# Altium footprint library Diode.PcbLib: 53 footprints (part 1 of 4)
Each footprint in its own frame and in the unit in brackets; x right, y up, seen from the top. Pads: shape width x height; smd on the part's side, far side on the other; paste and mask are expansions set on the pad; w line width, h text height; cw(c..) or ccw(c..) is an arc to the next point about the centre after c.
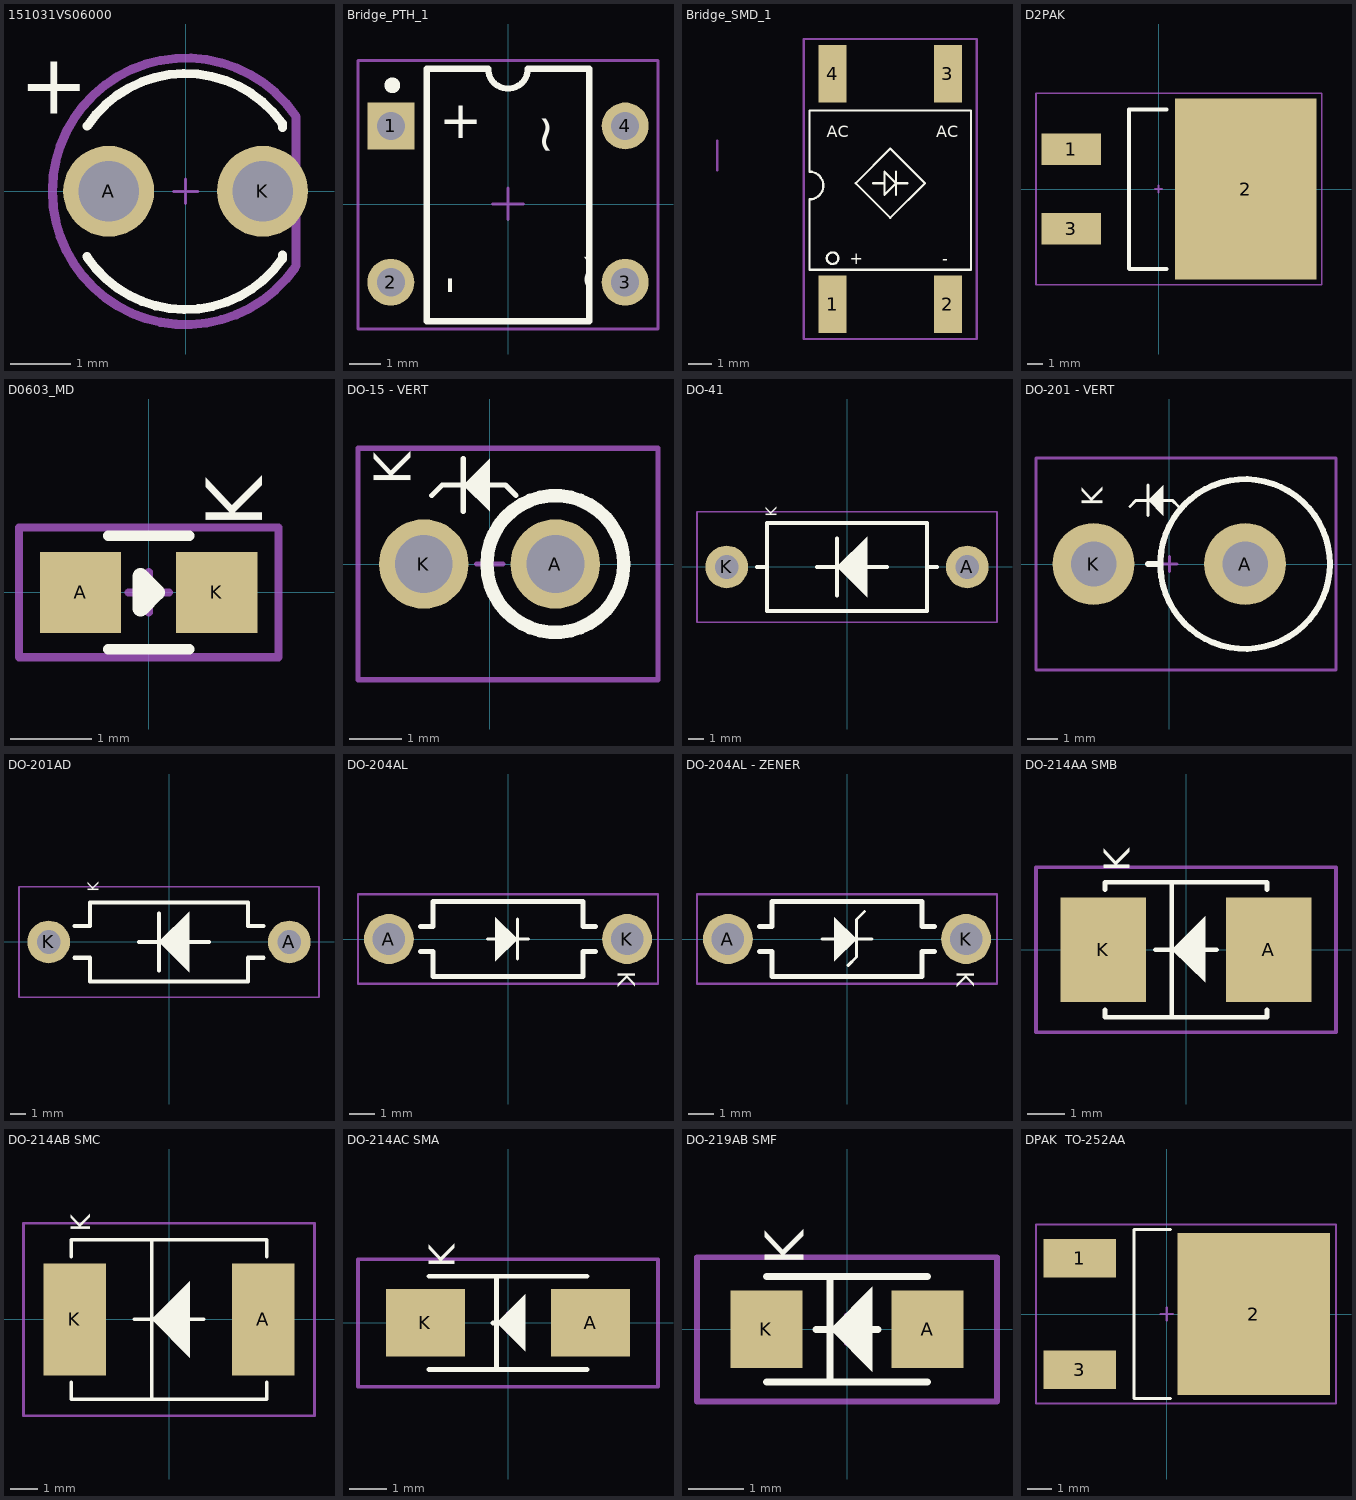
[diagram p0: the footprints below, top view; thin cyan lines are the x and y axes]

## 151031VS06000 [mm]
pads (2):
  round 1.5 hole 1: A(-1.27,0) K(1.27,0)
Top Overlay:
  lines w0.15: -1.631,-1.079 ccw(c-0.006,-0.001) 1.594,-1.114 ; -1.625,1.075 cw(c-0.002,-0.007) 1.581,1.131 ; 1.6,-1.093 1.6,-1.05 ; 1.6,1.05 1.6,1.118
  text "+" at -2.75,1.275 h1
Mechanical 15:
  lines w0.05: -0.2,0 0.2,0 ; 0,-0.2 0,0.2
  lines w0.15: 1.806,-1.256 cw(c0,0) 1.806,1.257 ; 1.819,-1.225 1.819,1.23
3D body "STEP-WL-TMRC-3mm-wos-rev1.STEP": height 5.4, standoff -26.3, extent -1.925,-1.912 1.629,1.912

## Bridge_PTH_1 [mm] "DIP, 8-Pin, Row Spacing 7.62 mm, Pitch 2.54 mm"
height 5.08
pads (4):
  rect 1.5x1.5 hole 0.9: 1(-3.75,2.5)
  round 1.5 hole 0.9: 2(-3.75,-2.5) 3(3.75,-2.5) 4(3.75,2.5)
Top Overlay:
  circle w0.25: c-3.7,3.8 r0.125
  lines w0.2: -2.6,-3.75 -2.6,4.33 -0.635,4.33 ccw(c0,4.33) 0.635,4.33 2.6,4.33 2.6,-3.75 -2.6,-3.75
  text "~" at 3.1,-2.9 h1.2
  text "~" at 0.7,2.9 h1.2
  text "-" at -1.4,-2.9 h1.2
  text "+" at -2.2,2.1 h1.2
Mechanical 15:
  lines w0.1: -0.5,0.005 0.5,0.005 ; 0,-0.495 0,0.505 ; -4.8,-4 -4.8,4.6 4.8,4.6 4.8,-4 -4.8,-4
3D body "User Library-DFM_Bridge_Rectifier.SLDPRT": height 3.75, standoff -3.65, extent -3.9,-4.255 4.1,4.255

## Bridge_SMD_1 [mm]
height 2.6
pads (4):
  rect 1.2x2.5 smd: 1(-1265,-1265) 2(-1260,-1265) 3(-1260,-1255) 4(-1265,-1255)
Top Overlay:
  circle w0.1: c-1265,-1263 r0.25
  lines w0.1: -1266,-1260.5 -1266,-1263.5 -1259,-1263.5 -1259,-1256.6 -1266,-1256.6 -1266,-1259.25 cw(c-1266,-1259.85) -1266,-1260.45 ; -1263.25,-1259.75 -1262.75,-1259.75 ; -1262.25,-1260.25 -1262.25,-1259.25 ; -1261.75,-1259.75 -1262.25,-1259.75 ; -1262.25,-1259.75 -1262.75,-1260.25 -1262.75,-1259.25 -1262.25,-1259.75 ; -1264,-1259.75 -1262.5,-1261.25 -1261,-1259.75 -1262.5,-1258.25 -1264,-1259.75
  text "+" at -1264.25,-1263.25 h0.5
  text "-" at -1260.25,-1263.25 h0.5
  text "AC" at -1265.25,-1257.75 h0.5
  text "AC" at -1260.5,-1257.75 h0.5
Mechanical 15:
  lines w0.1: -1270,-1257.9 -1270,-1258.8 -1270,-1258 ; -1270,-1258 -1270,-1259.2 -1270,-1258 ; -1266.25,-1266.5 -1266.25,-1253.5 -1259,-1253.5 -1258.75,-1253.5 -1258.75,-1266.5 -1266.25,-1266.5

## D2PAK [mm]
pads (3):
  rect 3.8x2 smd paste+0: 1(-5.55,2.54) 3(-5.55,-2.54)
  rect 9x11.5 smd paste+0: 2(5.55,0)
Top Overlay:
  lines w0.254: 0.508,-5.08 -1.854,-5.08 -1.88,-5.055 -1.88,5.055 0.508,5.055
Mechanical 15:
  lines w0.1: -0.25,0 0.25,0 ; 0,-0.25 0,0.25 ; -7.8,-6.1 10.4,-6.1 10.4,6.1 -7.8,6.1 -7.8,-6.1
3D body "D2PAK.step": height 4.98, standoff -0.03, extent -6.971,-5.08 8.292,5.08

## D0603_MD [mm]
height 0.85
pads (2):
  rect 1x1 smd: A(-0.839,0) K(0.839,0)
Top Overlay:
  lines w0.127: -0.5,-0.7 0.5,-0.7 ; -0.5,0.7 0.5,0.7
  lines w0.2: -0.1,-0.2 0.1,0 -0.1,0.2 -0.1,-0.2
  text "K" at 1.4,0.8 h0.7
Mechanical 15:
  lines w0.1: -0.25,0 0.25,0 ; 0,-0.25 0,0.25 ; -1.6,-0.8 -1.6,0.8 1.6,0.8 1.6,-0.8 -1.6,-0.8
3D body "User Library-suppressor.step": height 0.36, standoff 0, extent -0.83,-0.42 0.83,0.42

## DO-15 - VERT [mm]
pads (2):
  round 1.7 hole 1.1: A(1.25,0) K(-1.25,0)
Top Overlay:
  circle w0.254: c1.25,0 r1.3
  region: -0.5,1.5 0,2 0,1
  lines w0.1: -1.1,1.3 -0.9,1.5 -0.5,1.5 ; -0.5,1 -0.5,2 ; 0,1.5 0.3,1.5 0.5,1.3
  text "K" at -1.5,1.5 h0.7
Mechanical 15:
  lines w0.1: -0.25,0 0.25,0 ; 0,-0.25 0,0.25 ; -2.5,-2.2 -2.5,2.2 3.2,2.2 3.2,-2.2 -2.5,-2.2
3D body "User Library-Diod DO-41 Vertical.STEP": height 9.64, standoff -4.5, extent -1.742,-1.35 2.592,1.38

## DO-41 [mm]
pads (2):
  round 2.7 hole 1.5: A(7.62,0) K(-7.62,0)
Top Overlay:
  region: -0.635,0 1.27,1.905 1.27,-1.905
  lines w0.254: -5.715,0 -5.08,0 ; -1.905,0 2.54,0 1.27,0 ; -0.635,-1.8 -0.635,1.8 ; 5.08,0 5.715,0 ; -5.08,-2.794 -5.08,2.794 5.08,2.794 5.08,-2.794 -5.08,-2.794
  text "K" at -4.45,3.175 h0.7
Mechanical 15:
  lines w0.1: -0.25,0 0.25,0 ; 0,-0.25 0,0.25 ; -9.5,-3.5 -9.5,3.5 9.5,3.5 9.5,-3.5 -9.5,-3.5
3D body "User Library-DO-201AD.STEP": height 7.6, standoff -4, extent -8.28,-2.806 8.28,2.794

## DO-201 - VERT [mm]
pads (2):
  round 2.7 hole 1.5: A(2.5,0) K(-2.5,0)
Top Overlay:
  circle w0.2: c2.5,0 r2.8
  region: -0.7,2.1 -0.2,2.6 -0.2,1.6
  lines w0.1: -1.3,1.9 -1.1,2.1 -0.7,2.1 ; -0.7,1.6 -0.7,2.6 ; -0.2,2.1 0.1,2.1 0.3,1.9
  lines w0.2: -0.7,0 -0.3,0
  text "K" at -2.2,1.9 h0.7
Mechanical 15:
  lines w0.1: -0.25,0 0.25,0 ; 0,-0.25 0,0.25 ; -4.4,-3.5 -4.4,3.5 5.5,3.5 5.5,-3.5 -4.4,-3.5
3D body "User Library-DO-201AV-Vertical_200.STEP": height 15.69, standoff -3, extent -3.24,-2.8 5.3,2.8

## DO-201AD [mm]
pads (2):
  round 2.7 hole 1.5: A(7.62,0) K(-7.62,0)
Top Overlay:
  region: -0.635,0 1.27,1.905 1.27,-1.905
  lines w0.254: -6,-1 -5,-1 -5,-2.5 5,-2.5 5,-1.5 ; -6,1 -5,1 -5,2.5 5,2.5 5,1.5 5,1 6,1 ; -1.905,0 2.54,0 1.27,0 ; -0.635,-1.8 -0.635,1.8 ; 5,-1.6 5,-1 6,-1
  text "K" at -4.45,3.175 h0.7
Mechanical 15:
  lines w0.1: -0.25,0 0.25,0 ; 0,-0.25 0,0.25 ; -9.5,-3.5 9.5,-3.5 9.5,3.5 -9.5,3.5 -9.5,-3.5
3D body "User Library-DO-201AD.STEP": height 7.6, standoff -4, extent -8.28,-2.806 8.28,2.794

## DO-204AL [mm]
pads (2):
  round 2 hole 1.3: A(-4.763,0) K(4.763,0)
Top Overlay:
  region: 0.381,0 -0.508,-0.889 -0.508,0.864
  lines w0.127: -0.813,0 0.813,0 ; 0.381,-0.8 0.381,0.8
  lines w0.2: -3.5,-0.5 -3,-0.5 -3,-1.5 3,-1.5 3,-0.5 3.5,-0.5 ; -3.5,0.5 -3,0.5 -3,1.5 3,1.5 3,0.5 3.5,0.5
  text "K" at 4.4,-1.3 h0.7
Mechanical 15:
  lines w0.1: -0.25,0 0.25,0 ; 0,-0.25 0,0.25 ; -6,-1.8 6,-1.8 6,1.8 -6,1.8 -6,-1.8
3D body "User Library-DO-41_375mil.STEP": height 2.83, standoff -2.52, extent -5.192,-1.355 5.192,1.345

## DO-204AL - ZENER [mm]
pads (2):
  round 2 hole 1.3: A(-4.763,0) K(4.763,0)
Top Overlay:
  region: 0.381,0 -0.508,-0.889 -0.508,0.864
  lines w0.127: -1,0 1,0 ; 0.05,-1.05 0.381,-0.719 0.381,0.781 0.4,0.8 0.7,1.1
  lines w0.2: -3.5,-0.5 -3,-0.5 -3,-1.5 3,-1.5 3,-0.5 3.5,-0.5 ; -3.5,0.5 -3,0.5 -3,1.5 3,1.5 3,0.5 3.5,0.5
  text "K" at 4.4,-1.3 h0.7
Mechanical 15:
  lines w0.1: -0.25,0 0.25,0 ; 0,-0.25 0,0.25 ; -6,-1.8 -6,1.8 6,1.8 6,-1.8 -6,-1.8
3D body "User Library-DO-41_375mil.STEP": height 2.83, standoff -2.52, extent -5.192,-1.355 5.192,1.345

## DO-214AA SMB [mil]
pads (2):
  rect 90x110 smd paste+0: A(87,0) K(-87,0)
Top Overlay:
  region: -15,0 20,35 20,-34
  lines w5: -85,-62.99 -85,-70.87 85,-70.87 85,-62.98 ; -85,62.99 -85,70.87 85,70.87 85,62.98 ; -32,0 32,0 ; -15,-70.87 -15,70.87
  text "K" at -59.06,81.69 h27.56
Mechanical 15:
  lines w3.94: -9.84,0 9.84,0 ; 0,-9.84 0,9.84 ; -157.48,-86.61 157.48,-86.61 157.48,86.61 -157.48,86.61 -157.48,-86.61
3D body "DO-214AA SMB.step": height 94.57, standoff 3.82, extent -106.3,-70.86 106.3,70.88

## DO-214AB SMC [mil]
pads (2):
  rect 90x160 smd paste+0: A(135,0) K(-135,0)
Top Overlay:
  region: -25,0 30,55 30,-55
  lines w5: -140,-90 -140,-114 140,-114 140,-90 ; -140,90 -140,114.17 140,114.17 140,90 ; -50,0 50,0 ; -25,-114 -25,114.17
  text "K" at -113.19,125.98 h27.56
Mechanical 15:
  lines w3.94: -9.84,0 9.84,0 ; 0,-9.84 0,9.84 ; -208.66,-137.8 -208.66,137.8 208.66,137.8 208.66,-137.8 -208.66,-137.8
3D body "DO-214AB SMC.step": height 92.72, standoff 1.97, extent -156.5,-116.14 156.5,116.15

## DO-214AC SMA [mm] "DO-214-AC/SMA; 2 C-Bend Leads; Body 5.3 x 2.6 mm, inc. leads (LxW)"
height 2.34
pads (2):
  rect 2.1x1.8 smd: A(2.2,0) K(-2.2,0)
Top Overlay:
  region: -0.305,0 0.457,0.762 0.457,-0.762
  lines w0.127: -2.108,-1.245 2.108,-1.245 ; -2.108,1.245 2.108,1.245 ; -0.4,0 0.3,0 ; -0.305,-1.245 -0.305,1.245
  text "K" at -1.425,1.475 h0.7
Mechanical 15:
  lines w0.1: -0.25,0 0.25,0 ; 0,-0.25 0,0.25 ; -4,-1.7 4,-1.7 4,1.7 -4,1.7 -4,-1.7
3D body "User Library-DO-214AC SMA.step": height 2.4, standoff 0, extent -2.6,-1.3 2.6,1.3

## DO-219AB SMF [mm]
height 1
pads (2):
  rect 1.3x1.4 smd paste+0: A(1.45,0) K(-1.45,0)
Top Overlay:
  region: -0.305,0 0.457,0.762 0.457,-0.762
  lines w0.127: -1.45,-0.95 1.45,-0.95 ; -1.45,0.95 1.45,0.95 ; -0.559,0 0.559,0 ; -0.305,-0.95 -0.305,0.95
  text "K" at -0.775,1.15 h0.7
Mechanical 15:
  lines w0.1: -0.25,0 0.25,0 ; 0,-0.25 0,0.25 ; -2.7,-1.3 2.7,-1.3 2.7,1.3 -2.7,1.3 -2.7,-1.3
3D body "DO-219AB SMF.STEP": height 1.25, standoff 0, extent -1.95,-0.95 1.95,0.95

## DPAK  TO-252AA [mm]
pads (3):
  rect 3x1.6 smd paste+0: 1(-3.6,2.3) 3(-3.6,-2.3)
  rect 6.3x6.7 smd paste+0: 2(3.6,0)
Top Overlay:
  lines w0.127: 0.15,-3.5 -1.35,-3.5 -1.35,3.5 0.15,3.5
Mechanical 15:
  lines w0.1: -0.25,0 0.25,0 ; 0,-0.25 0,0.25 ; -5.4,-3.7 7,-3.7 7,3.7 -5.4,3.7 -5.4,-3.7
3D body "User Library-SO-369A-13.stp": height 2.4, standoff 0, extent -4.3,-3.3 5.8,3.3